# Altium footprint library 7499211125.PcbLib: 1 footprints
Each footprint in its own frame and in the unit in brackets; x right, y up, seen from the top. Pads: shape width x height; smd on the part's side, far side on the other; paste and mask are expansions set on the pad; w line width, h text height; cw(c..) or ccw(c..) is an arc to the next point about the centre after c.
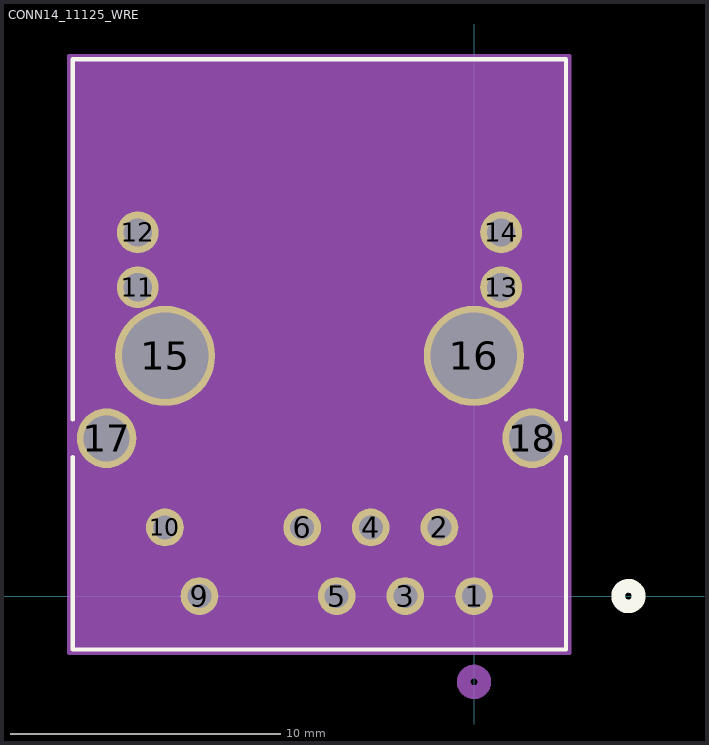
[diagram p0: the footprint, top view; thin cyan lines are the x and y axes]

## CONN14_11125_WRE [mil]
pads (16):
  round 55 / inner round 60 / far side round 55 hole 35 mask+0: 1(0,0) 2(-50.39,100) 3(-100,0) 4(-150.39,100) 5(-200,0) 6(-250.39,100) 9(-400,0) 10(-450.39,100)
  round 61 / inner round 60 / far side round 61 hole 41: 11(-489.96,450) 12(-489.96,529.92) 13(39.57,450) 14(39.57,529.92)
  round 146 / inner round 60 / far side round 146 hole 126: 15(-450.2,350) 16(-0.2,350)
  round 87 / inner round 60 / far side round 87 hole 67: 17(-535.24,229.92) 18(84.84,229.92)
Top Overlay:
  circle w20: c225,0 r15
  lines w6: -584.7,624.65 -584.7,257.44 -584.7,782.17 ; -584.7,679.68 -584.7,782.17 ; 134.3,624.65 134.3,257.44 134.3,782.17 ; 134.3,679.68 134.3,782.17 ; -584.7,-77.83 134.3,-77.83 ; -584.7,-77.83 -584.7,202.4 -584.7,-77.83 ; -584.7,-77.83 134.3,-77.83 ; -584.7,782.17 134.3,782.17 ; -584.7,782.17 134.3,782.17 ; 134.3,-77.83 134.3,202.4 134.3,-77.83
Bottom Overlay:
  circle w20: c200,0 r15
Mechanical 13:
  circle w20: c0,-125 r15
  lines w1: -579.7,-72.83 129.3,-72.83 129.3,777.17 -579.7,777.17 -579.7,-72.83
Mechanical 15:
  region: 139.3,787.17 -589.7,787.17 -589.7,-82.83 139.3,-82.83
  lines w6: -589.7,-82.83 -589.7,787.17 139.3,787.17 139.3,-82.83 -589.7,-82.83
3D body: height 10, standoff 0, extent 0,0 10,10